# Altium footprint library Capacitors.PcbLib: 25 footprints (part 1 of 2)
Each footprint in its own frame and in the unit in brackets; x right, y up, seen from the top. Pads: shape width x height; smd on the part's side, far side on the other; paste and mask are expansions set on the pad; w line width, h text height; cw(c..) or ccw(c..) is an arc to the next point about the centre after c.
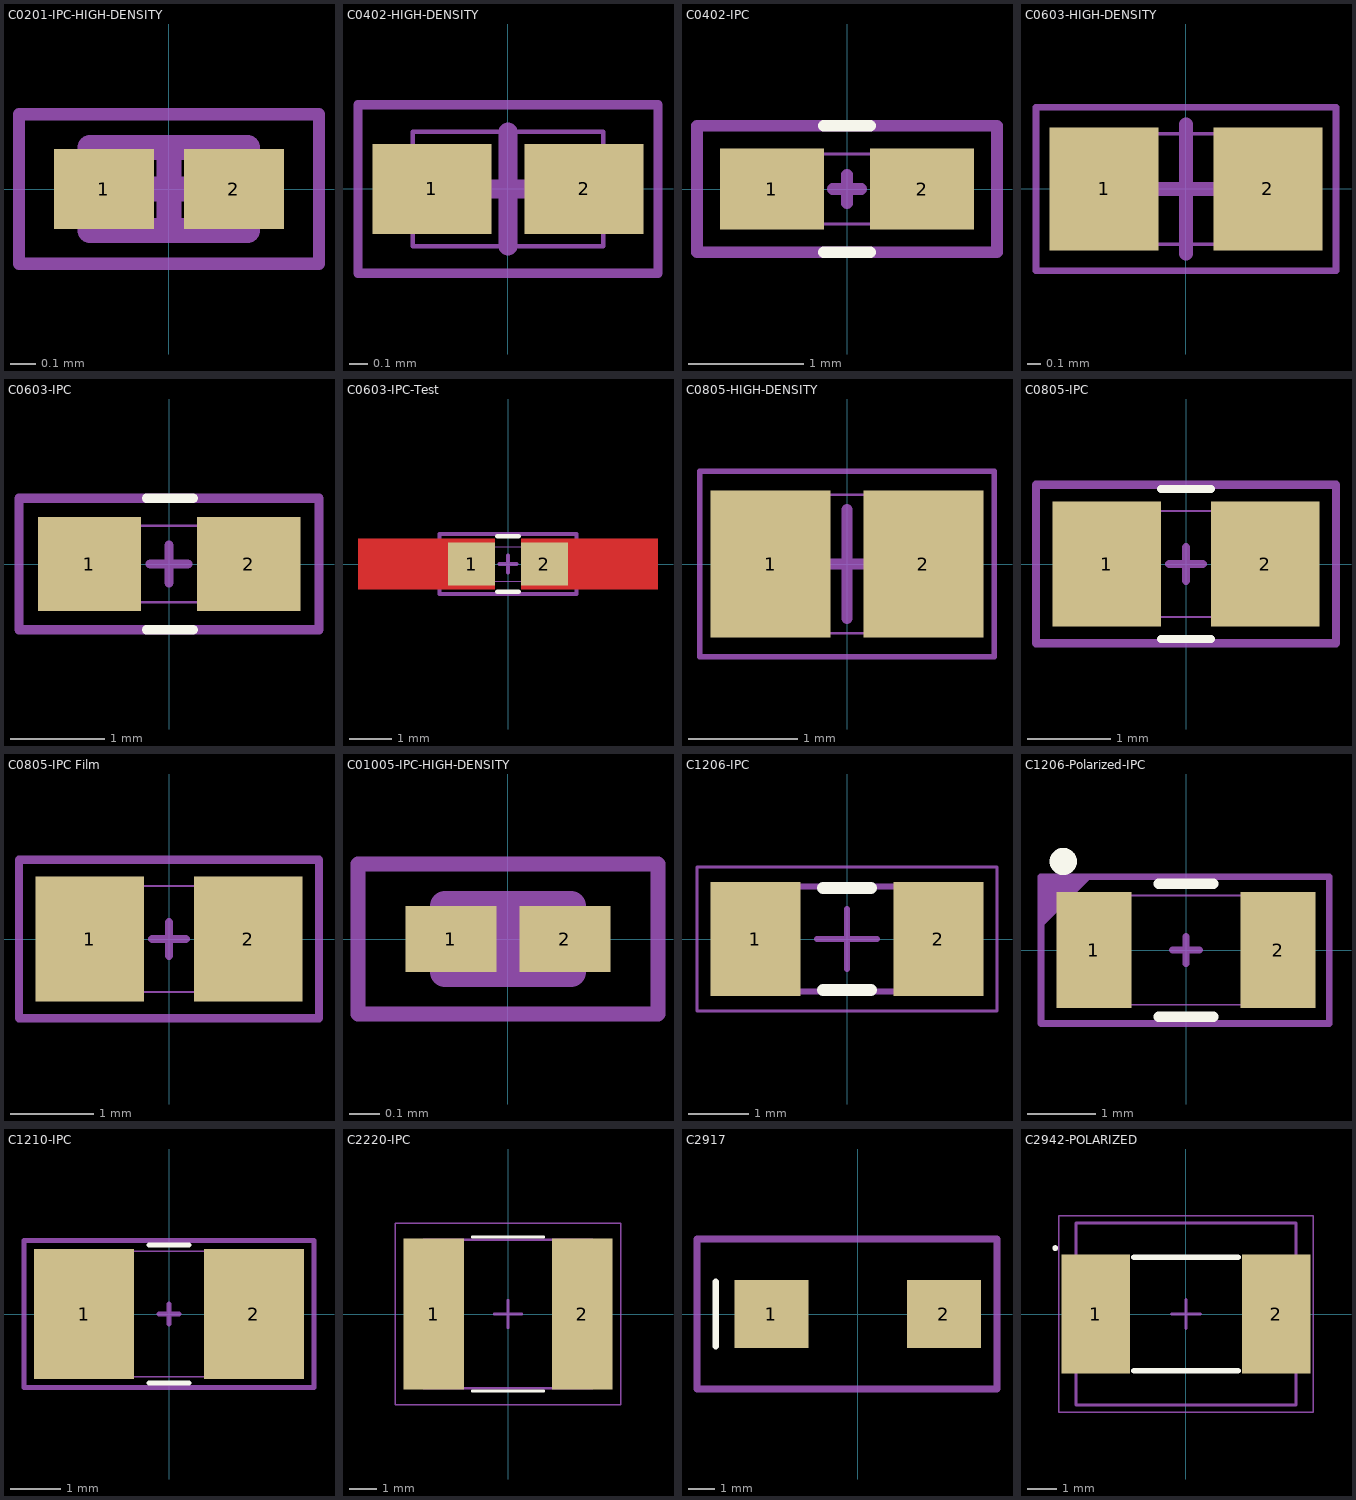
[diagram p0: the footprints below, top view; thin cyan lines are the x and y axes]

## C0201-IPC-HIGH-DENSITY [mm] "Chip Capacitor, 2-Leads, Body 0.60x0.30mm, IPC High Density"
height 0.33
pads (2):
  rect 0.4x0.32 smd: 1(-0.26,0) 2(0.26,0)
3D Bodies:
  lines w0.1: -0.315,-0.165 -0.315,0.165 0.315,0.165 0.315,-0.165 -0.315,-0.165
Mechanical 15:
  lines w0.05: -0.6,-0.3 -0.6,0.3 0.6,0.3 0.6,-0.3 -0.6,-0.3
  lines w0.1: -0.165,0 0.165,0 ; 0,-0.165 0,0.165
3D body "csmd-0201_l0-6_w0-3_h0-33.stp": height 0.33, standoff 0, extent -0.3,-0.15 0.3,0.15

## C0402-HIGH-DENSITY [mil] "Chip Capacitor, 2-Leads, Body 1.02x0.51mm, IPC High Density"
height 24.02
pads (2):
  rect 25x19 smd: 1(-16,0) 2(16,0)
Top Assembly Dwg:
  text ".Designator" at -54,-9.33 h10
Top Dimensions and Assy Info:
  lines w1: -20,-12 -20,12 20,12 20,-12 -20,-12
Mechanical 15:
  lines w1.97: -31.5,-17.72 31.5,-17.72 31.5,17.72 -31.5,17.72 -31.5,-17.72
  lines w3.94: -12.01,0 12.01,0 ; 0,-12.01 0,12.01
3D body "CAP0402.stp": height 7.87, standoff 0, extent -19.68,-11.8 19.69,11.82

## C0402-IPC [mm]
pads (2):
  rect 0.9x0.7 smd: 1(-0.65,0) 2(0.65,0)
Top Overlay:
  lines w0.1: -0.2,-0.55 0.2,-0.55 ; -0.2,0.55 0.2,0.55
Top Dimensions and Assy Info:
  lines w0.025: -0.508,-0.305 0.508,-0.305 0.508,0.305 -0.508,0.305 -0.508,-0.305
Mechanical 15:
  lines w0.1: -0.125,0 0.125,0 ; 0,-0.125 0,0.125 ; -1.3,-0.55 1.3,-0.55 1.3,0.55 -1.3,0.55 -1.3,-0.55
3D body "CAP0402.stp": height 0.2, standoff 0, extent -0.5,-0.3 0.5,0.3

## C0603-HIGH-DENSITY [mm] "Chip Capacitor, 2-Leads, Body 1.60x0.80mm, IPC High Density"
height 0.91
pads (2):
  rect 0.8x0.9 smd: 1(-0.6,0) 2(0.6,0)
Top Assembly Dwg:
  text ".Designator" at -1.956,-0.305 h0.38
Top Dimensions and Assy Info:
  lines w0.025: -0.813,-0.406 -0.813,0.406 0.813,0.406 0.813,-0.406 -0.813,-0.406
Mechanical 15:
  lines w0.05: -1.1,-0.6 1.1,-0.6 1.1,0.6 -1.1,0.6 -1.1,-0.6
  lines w0.1: -0.475,0 0.475,0 ; 0,-0.475 0,0.475
3D body "CAP0603.stp": height 0.3, standoff 0, extent -0.8,-0.4 0.8,0.4

## C0603-IPC [mm]
pads (2):
  rect 1.1x1 smd: 1(-0.85,0) 2(0.85,0)
Top Overlay:
  lines w0.1: -0.24,-0.7 0.26,-0.7 ; -0.24,0.7 0.26,0.7
Top Dimensions and Assy Info:
  lines w0.025: -0.813,-0.406 0.813,-0.406 0.813,0.406 -0.813,0.406 -0.813,-0.406
Mechanical 15:
  lines w0.1: -0.2,0 0.2,0 ; 0,-0.2 0,0.2 ; -1.6,-0.7 -1.6,0.7 1.6,0.7 1.6,-0.7 -1.6,-0.7
3D body "CAP0603.stp": height 0.3, standoff 0, extent -0.8,-0.4 0.8,0.4

## C0603-IPC-Test [mm]
pads (2):
  rect 1.1x1 smd: 1(-0.85,0) 2(0.85,0)
Top Layer:
  rectangle: 0.3,-0.6 3.5,0.6
  rectangle: -3.5,-0.6 -0.3,0.6
Top Overlay:
  lines w0.1: -0.25,-0.65 0.25,-0.65 ; -0.25,0.65 0.25,0.65
Top Solder:
  rectangle: -3.5,-0.6 -2,0.6
  rectangle: 2,-0.6 3.5,0.6
Top Assembly Dwg:
  text ".Designator" at -1.956,-0.305 h0.38
Top Dimensions and Assy Info:
  lines w0.025: -0.813,-0.406 0.813,-0.406 0.813,0.406 -0.813,0.406 -0.813,-0.406
Mechanical 15:
  lines w0.1: -0.2,0 0.2,0 ; 0,-0.2 0,0.2 ; -1.6,-0.7 -1.6,0.7 1.6,0.7 1.6,-0.7 -1.6,-0.7
3D body "CAP0603.stp": height 0.3, standoff 0, extent -0.8,-0.4 0.8,0.4

## C0805-HIGH-DENSITY [mm] "Chip Capacitor, 2-Leads, Body 2.00x1.25mm, IPC High Density"
height 1.1
pads (2):
  rect 1.1x1.35 smd: 1(-0.7,0) 2(0.7,0)
Top Assembly Dwg:
  text ".Designator" at -1.956,-0.305 h0.38
Top Dimensions and Assy Info:
  lines w0.025: -1.016,-0.635 1.016,-0.635 1.016,0.635 -1.016,0.635 -1.016,-0.635
Mechanical 15:
  lines w0.05: -1.35,-0.85 -1.35,0.85 1.35,0.85 1.35,-0.85 -1.35,-0.85
  lines w0.1: -0.5,0 0.5,0 ; 0,-0.5 0,0.5
3D body "CAP0805.stp": height 0.78, standoff 0, extent -1,-0.625 1,0.625

## C0805-IPC [mm]
pads (2):
  rect 1.3x1.5 smd: 1(-0.95,0) 2(0.95,0)
Top Overlay:
  lines w0.1: -0.3,-0.9 0.3,-0.9 ; -0.3,0.9 0.3,0.9
Top Assembly Dwg:
  text ".Designator" at -1.956,-0.279 h0.38
Top Dimensions and Assy Info:
  lines w0.025: -1.016,-0.635 1.016,-0.635 1.016,0.635 -1.016,0.635 -1.016,-0.635
Mechanical 15:
  lines w0.1: -0.2,0 0.2,0 ; 0,-0.2 0,0.2 ; -1.8,-0.95 -1.8,0.95 1.8,0.95 1.8,-0.95 -1.8,-0.95
3D body "CAP0805.stp": height 0.78, standoff 0, extent -1,-0.625 1,0.625

## C0805-IPC Film [mm]
pads (2):
  rect 1.3x1.5 smd: 1(-0.95,0) 2(0.95,0)
Top Assembly Dwg:
  text ".Designator" at -1.956,-0.279 h0.38
Top Dimensions and Assy Info:
  lines w0.025: -1.016,-0.635 -1.016,0.635 1.016,0.635 1.016,-0.635 -1.016,-0.635
Mechanical 15:
  lines w0.1: -0.2,0 0.2,0 ; 0,-0.2 0,0.2 ; -1.8,-0.95 1.8,-0.95 1.8,0.95 -1.8,0.95 -1.8,-0.95
3D body "C0805x1.1mm (Film).step": height 1.11, standoff 0.01, extent -1,-0.625 1,0.625

## C01005-IPC-HIGH-DENSITY [mm] "Chip Capacitor, 2-Leads, Body 0.40x0.20mm, IPC High Density"
height 0.22
pads (2):
  rect 0.303x0.22 smd: 1(-0.19,0) 2(0.19,0)
3D Bodies:
  lines w0.1: -0.21,-0.11 -0.21,0.11 0.21,0.11 0.21,-0.11 -0.21,-0.11
Mechanical 15:
  lines w0.05: -0.5,-0.25 -0.5,0.25 0.5,0.25 0.5,-0.25 -0.5,-0.25
  lines w0.1: -0.11,0 0.11,0 ; 0,-0.11 0,0.11
3D body "01005_CAP.stp": height 0.2, standoff 0, extent -0.203,-0.102 0.203,0.102

## C1206-IPC [mm] "Chip Capacitor, 2-Leads, Body 3.20x1.60mm, IPC Low Density"
height 0.71
pads (2):
  rect 1.5x1.9 smd: 1(-1.525,0) 2(1.525,0)
Top Overlay:
  lines w0.2: -0.4,-0.85 0.4,-0.85 ; -0.4,0.85 0.4,0.85
3D Bodies:
  lines w0.1: -1.675,-0.875 -1.675,0.875 1.675,0.875 1.675,-0.875 -1.675,-0.875
Mechanical 15:
  lines w0.05: -2.5,-1.2 -2.5,1.2 2.5,1.2 2.5,-1.2 -2.5,-1.2
  lines w0.1: -0.5,0 0.5,0 ; 0,-0.5 0,0.5
3D body "C1206.step": height 0.71, standoff 0, extent -1.675,-0.875 1.675,0.875

## C1206-Polarized-IPC [mm]
pads (2):
  rect 1.1x1.7 smd: 1(-1.35,0) 2(1.35,0)
Top Overlay:
  circle w0.2: c-1.8,1.3 r0.1
  lines w0.152: -0.4,-0.975 0.4,-0.975 ; -0.4,0.975 0.4,0.975
Top Assembly Dwg:
  region: -2.125,0.325 -1.375,1.075 -2.125,1.075
  lines w0.1: -2.125,-1.075 2.1,-1.075 2.1,1.075 -2.125,1.075 -2.125,-1.075
  text ".Designator" at -1.956,-0.279 h0.38
Top Dimensions and Assy Info:
  lines w0.025: -1.6,-0.8 1.6,-0.8 1.6,0.8 -1.6,0.8 -1.6,-0.8
Mechanical 15:
  lines w0.1: -0.2,0 0.2,0 ; 0,-0.2 0,0.2
3D body "CAP1206.stp": height 1, standoff 0, extent -1.6,-0.8 1.6,0.8

## C1210-IPC [mm] "Chip Capacitor, Body 3.2x2.5mm, IPC High Density"
height 1.3
pads (2):
  rect 2x2.6 smd: 1(-1.7,0) 2(1.7,0)
Top Overlay:
  lines w0.1: -0.4,-1.375 0.4,-1.375 ; -0.4,1.375 0.4,1.375
Top Assembly Dwg:
  lines w0.1: -2.9,-1.473 -2.9,1.473 2.9,1.473 2.9,-1.473 -2.9,-1.473
  text ".Designator" at -1.956,-0.279 h0.38
Top Dimensions and Assy Info:
  lines w0.025: -1.6,-1.25 -1.6,1.25 1.6,1.25 1.6,-1.25 -1.6,-1.25
Mechanical 15:
  lines w0.1: -0.2,0 0.2,0 ; 0,-0.2 0,0.2
3D body "CAP1210.stp": height 0.92, standoff -0.02, extent -1.6,-1.25 1.6,1.25

## C2220-IPC [mm] "Chip Capacitor, 2-Leads, Body 5.70x5.00mm, IPC Low Density"
height 2.8
pads (2):
  rect 2.2x5.5 smd: 1(-2.7,0) 2(2.7,0)
Top Overlay:
  lines w0.1: -1.3,-2.8 1.3,-2.8 ; -1.3,2.8 1.3,2.8
3D Bodies:
  lines w0.1: -3.05,-2.7 3.05,-2.7 3.05,2.7 -3.05,2.7 -3.05,-2.7
Mechanical 15:
  lines w0.05: -4.1,-3.3 4.1,-3.3 4.1,3.3 -4.1,3.3 -4.1,-3.3
  lines w0.1: -0.5,0 0.5,0 ; 0,-0.5 0,0.5
3D body: height 2.8, standoff 0, extent 2.25,-2.7 3.05,2.7
3D body: height 2.8, standoff 0, extent -3.05,-2.7 -2.25,2.7
3D body: height 2.8, standoff 0, extent -2.25,-2.7 2.25,2.7

## C2917 [mm]
height 4.3
pads (2):
  rect 2.77x2.55 smd: 1(-3.22,0) 2(3.22,0)
Top Overlay:
  lines w0.254: -5.3,-1.2 -5.3,-0.75 -5.3,0.75 -5.3,1.2
Mechanical 15:
  lines w0.254: 0,2.8 5.2,2.8 5.2,-2.8 -6,-2.8 -6,2.8 0.2,2.8
3D body "T491X107K025AT.step": height 4.31, standoff 0.01, extent -3.8,-2.3 3.8,2.3

## C2942-POLARIZED [mm] "Chip Capacitor, 2-Leads, Body 7.30x6.00mm, IPC Medium Density"
height 2
pads (2):
  rect 2.37x4.13 smd: 1(-3.12,0) 2(3.12,0)
Top Overlay:
  circle w0.1: c-4.517,2.277 r0.05
  lines w0.2: -1.8,-1.965 1.8,-1.965 ; -1.8,1.965 1.8,1.965
3D Bodies:
  lines w0.1: -3.8,-3.15 -3.8,3.15 3.8,3.15 3.8,-3.15 -3.8,-3.15
Mechanical 15:
  lines w0.05: -4.4,-3.4 -4.4,3.4 4.4,3.4 4.4,-3.4 -4.4,-3.4
  lines w0.1: -0.5,0 0.5,0 ; 0,-0.5 0,0.5
3D body "T545H158M006ATE035.step": height 2.01, standoff 0.01, extent -3.78,-3.17 3.82,3.13